# EAGLE library part 74LVC4T245 (library X893)
4-bit Dual supply bus transceiver http://focus.ti.com/lit/ds/symlink/sn74avc4t245.pdf
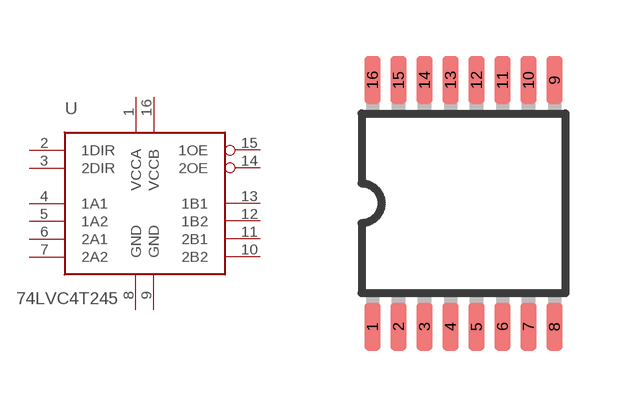
[diagram p16: symbol with the pads of TSSOP16; footprint TSSOP16]

Designator prefix U

## 74LVC4T245  [TSSOP16]
1  VCCA  pas
2  1DIR  in
3  2DIR  in
4  1A1
5  1A2
6  2A1
7  2A2
8  GND  sup
9  GND
10  2B2
11  2B1
12  1B2
13  1B1
14  2OE  in
15  1OE  in
16  VCCB  pas

## Footprint TSSOP16 (pad centres in mm)
TSOP16 thin small outline package
smd 0.4 x 1.2: 1 -2.275,-3.087; 2 -1.625,-3.087; 3 -0.975,-3.087; 4 -0.325,-3.087; 5 0.325,-3.087; 6 0.975,-3.087; 7 1.625,-3.087; 8 2.275,-3.087; 9 2.275,3.087; 10 1.625,3.087; 11 0.975,3.087; 12 0.325,3.087; 13 -0.325,3.087; 14 -0.975,3.087; 15 -1.625,3.087; 16 -2.275,3.087